# EAGLE library part NCN5120 (library rca-knx)
ON Semiconductor NCN5120 Transceiver for KNXTwisted Pair Networks DEVICE NOT RECOMMENDED FOR NEW DESIGN Please consider using the pin-to-pin replacement NCN5121 instead. NCN5120 is a receiver−transmitter IC suitable for use in KNXtwisted pair networks (KNX TP1−256). It supports the connection ofactuators, sensors, microcontrollers, switches or other applications ina building network. Datasheet: NCN5120-D.PDF <https://www.onsemi.com/pub/Collateral/NCN5120-D.PDF>
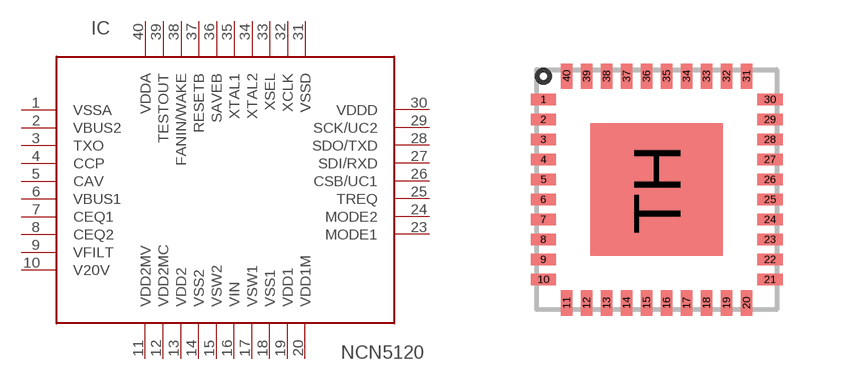
[diagram p1: symbol with the pads of QFN40_6X6; footprint QFN40_6X6]

Designator prefix IC

## NCN5120  [QFN40_6X6]
1  VSSA
2  VBUS2
3  TXO
4  CCP
5  CAV
6  VBUS1
7  CEQ1
8  CEQ2
9  VFILT
10  V20V
11  VDD2MV
12  VDD2MC
13  VDD2
14  VSS2
15  VSW2
16  VIN
17  VSW1
18  VSS1
19  VDD1
20  VDD1M
23  MODE1
24  MODE2
25  TREQ
26  CSB/UC1
27  SDI/RXD
28  SDO/TXD
29  SCK/UC2
30  VDDD
31  VSSD
32  XCLK
33  XSEL
34  XTAL2
35  XTAL1
36  SAVEB
37  RESETB
38  FANIN/WAKE
39  TESTOUT
40  VDDA

## Footprint QFN40_6X6 (pad centres in mm)
ON Semiconductor QFN40 6x6, 0.5P CASE 485AU−01ISSUE O Reference: ON Semiconductor - 485AU.PDF <https://www.onsemi.com/pub/Collateral/485AU.PDF>
smd 0.63 x 0.28: 1 -2.835,2.25; 2 -2.835,1.75; 3 -2.835,1.25; 4 -2.835,0.75; 5 -2.835,0.25; 6 -2.835,-0.25; 7 -2.835,-0.75; 8 -2.835,-1.25; 9 -2.835,-1.75; 10 -2.835,-2.25; 21 2.835,-2.25; 22 2.835,-1.75; 23 2.835,-1.25; 24 2.835,-0.75; 25 2.835,-0.25; 26 2.835,0.25; 27 2.835,0.75; 28 2.835,1.25; 29 2.835,1.75; 30 2.835,2.25
smd 0.28 x 0.63: 11 -2.25,-2.835; 12 -1.75,-2.835; 13 -1.25,-2.835; 14 -0.75,-2.835; 15 -0.25,-2.835; 16 0.25,-2.835; 17 0.75,-2.835; 18 1.25,-2.835; 19 1.75,-2.835; 20 2.25,-2.835; 31 2.25,2.835; 32 1.75,2.835; 33 1.25,2.835; 34 0.75,2.835; 35 0.25,2.835; 36 -0.25,2.835; 37 -0.75,2.835; 38 -1.25,2.835; 39 -1.75,2.835; 40 -2.25,2.835
smd 3.32 x 3.32: TH 0,0